# Altium schematic symbol library DRV8234RTER.SchLib: 1 symbol
Pins are listed as number, name and electrical type; pins without a type are passive.

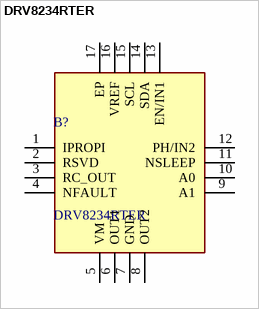
[diagram p0: symbol DRV8234RTER]

## DRV8234RTER
designator B?
Motor / Motion / Ignition Controllers & Drivers SINGLE H-BRIDGE MOTOR DRIVER; Manufacturer_Name: Texas Instruments; Geometry.Height: 0.8mm; Manufacturer_Part_Number: DRV8234RTER; Mouser Part Number: *; Mouser Price/Stock: *; Arrow Part Number: *; Arrow Price/Stock: *; Datasheet Link: https://www.ti.com/lit/ds/symlink/drv8234.pdf?ts=1704472523164&ref_url=https%253A%252F%252Fwww.ti.com%252Fsitesearch%252Fen-us%252Fdocs%252Funiversalsearch.tsp%253FlangPref%253Den-US%2526searchTerm%253DDRV8234RTER%2526nr%253D2
footprint QFN50P300X300X80-17N-D
pins: 1 IPROPI, 2 RSVD, 3 RC_OUT, 4 NFAULT, 5 VM, 6 OUT1, 7 GND, 8 OUT2, 9 A1, 10 A0, 11 NSLEEP, 12 PH/IN2, 13 EN/IN1, 14 SDA, 15 SCL, 16 VREF, 17 EP